# EAGLE library part 3-338314-2 (library 000_VansAircraft)
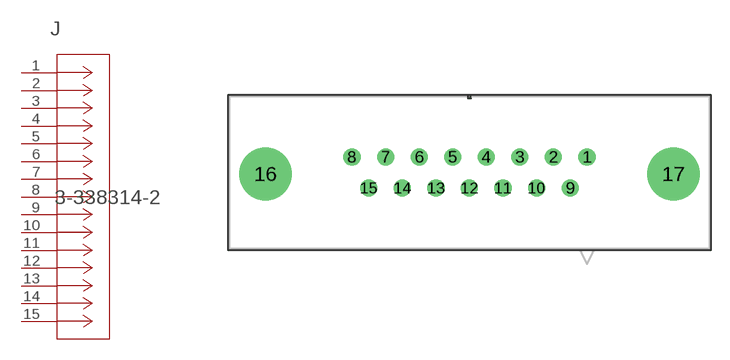
[diagram p2: symbol with the pads of CONN_3-338314-2_TYC; footprint CONN_3-338314-2_TYC]

Designator prefix J

## 3-338314-2 (COPYRIGHT: Copyright (C) 2025 Ultra Librarian. All rights reserved.; DESCRIPTION: 15POS.HD20 REC.ASSY; MANUFACTURER_NAME: TE Connectivity; MANUFACTURER_PART_NUMBER: 3-338314-2)  [CONN_3-338314-2_TYC]
1  1  pas
2  2  pas
3  3  pas
4  4  pas
5  5  pas
6  6  pas
7  7  pas
8  8  pas
9  9  pas
10  10  pas
11  11  pas
12  12  pas
13  13  pas
14  14  pas
15  15  pas

## Footprint CONN_3-338314-2_TYC (pad centres in mm)
drill 0.889 pad 1.397: 1 9.525,1.27; 2 6.782,1.27; 3 4.039,1.27; 4 1.295,1.27; 5 -1.422,1.27; 6 -4.166,1.27; 7 -6.909,1.27; 8 -9.652,1.27; 9 8.153,-1.27; 10 5.41,-1.27; 11 2.667,-1.27; 12 -0.076,-1.27; 13 -2.794,-1.27; 14 -5.537,-1.27; 15 -8.28,-1.27
drill 3.302 pad 3.81: 16 -16.713,-0.102; 17 16.586,-0.102